# Altium schematic symbol library SRNDBadge.SchLib: 1 symbol
Pins are listed as number, name and electrical type; pins without a type are passive.

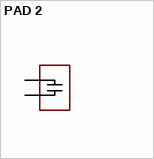
[diagram p0: symbol PAD 2]

## PAD 2
designator C?, comment CAP TOUCH SENSOR  (value not drawn)
pins: 1, 2